# Altium schematic symbol library Schlib1.SchLib: 7 symbols
Pins are listed as number, name and electrical type; pins without a type are passive.

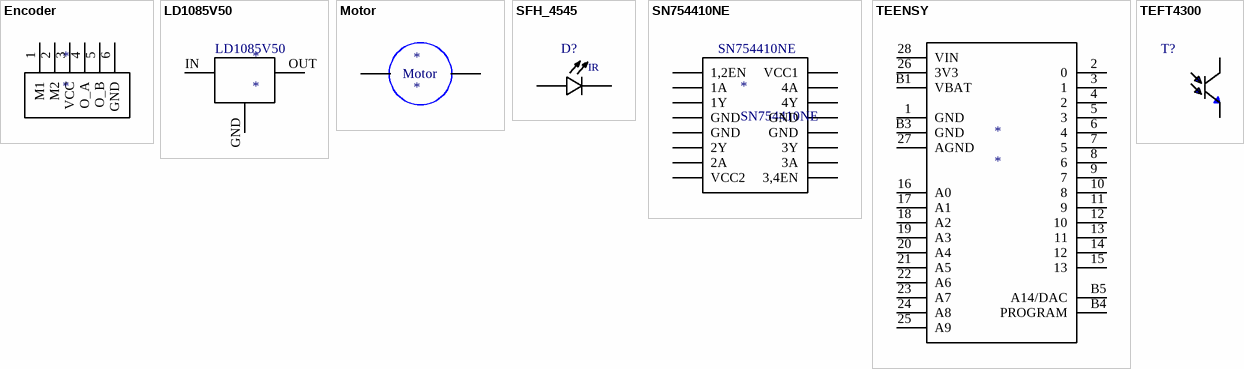
[diagram p0: symbols Encoder to TEFT4300]

## Encoder
designator *
pins: 1 M1, 2 M2, 3 VCC, 4 O_A, 5 O_B, 6 GND

## LD1085V50
designator *
STMICROELECTRONICS         LD1085V50            Fixed LDO Voltage Regulator, 8V to 30V, 1.3V Dropout, 5Vout, 3Aout, TO-220-3; Output Current: 3A; Number of Outputs: 1; Nominal Output Voltage: 5V; Input Bias Current: 5mA; Polarity: Positive; Quiescent Current: 10mA; Accuracy: 1%; Supplier 1: Digi-Key; Supplier Part Number 1: 497-3436-5-ND; Manufacturer 1: STMicroelectronics; Manufacturer Part Number 1: LD1085V50; Stock 1: 1010; Pricing 1: 1=1.30000, 10=1.16200, 25=1.10320, 100=0.84710, 250=0.74860, 500=0.70920, 1000=0.55160, 2500=0.52402, 5000=0.50432 (USD); RoHS: Yes; Mount: Through Hole; Case/Package: TO; Number of Pins: 3; Weight: 0.02lb; Min Operating Temperature: -40°C; Max Operating Temperature: 125°C; Dropout Voltage: 1.3V; Max Input Voltage: 30V; Min Input Voltage: 8V; Package Quantity: 50; Output Voltage: 5V; Packaging: Rail/Tube; Max Output Current: 3A; Number of Regulators: 1; Min Output Voltage: 5V; Output Voltage Accuracy: 1%; Output Type: Fixed; Length: 10.4mm; Height: 9.15mm; Width: 4.6mm; Radiation Hardening: No; REACH SVHC: No SVHC; Lead Free: Lead Free; ComponentLink1URL: https://datasheet.ciiva.com/15111/getdatasheetpartid-42498-15111002.pdf?src-supplier=Verical; ComponentLink1Description: https://datasheet.ciiva.com/15111/getdatasheetpartid-42498-15111002.pdf?src-supplier=Verical; ComponentLink2URL: https://datasheet.ciiva.com/16496/cd00001883-16496025.pdf?src-supplier=Future+Electronics; ComponentLink2Description: https://datasheet.ciiva.com/16496/cd00001883-16496025.pdf?src-supplier=Future+Electronics; ComponentLink3URL: https://datasheet.ciiva.com/2052/cd00001883-2052652.pdf?src-supplier=Digi-Key; ComponentLink3Description: https://datasheet.ciiva.com/2052/cd00001883-2052652.pdf?src-supplier=Digi-Key; ComponentLink4URL: https://datasheet.ciiva.com/1511/1761309-1511546.pdf?src-supplier=Element14; ComponentLink4Description: https://datasheet.ciiva.com/1511/1761309-1511546.pdf?src-supplier=Element14; ComponentLink5URL: https://datasheet.ciiva.com/3225/cd00001883-3225070.pdf?src-supplier=Avnet; ComponentLink5Description: https://datasheet.ciiva.com/3225/cd00001883-3225070.pdf?src-supplier=Avnet; ComponentLink6URL: https://datasheet.ciiva.com/16491/cd00001883-16491278.pdf?src-supplier=Avnet+Asia; ComponentLink6Description: https://datasheet.ciiva.com/16491/cd00001883-16491278.pdf?src-supplier=Avnet+Asia
pins: GND 38, IN 36, OUT 37

## Motor
designator *
pins: 1 +, 1 +

## SFH_4545
designator D?  (value not drawn)
/ Infrared _IR_ Emitter 950nm 1.5V 100mA 550mW/sr @ 100mA 10Â° Radial /; MF: OSRAM Opto; Package: Radial Osram Opto; Digi-Key_Purchase_URL: https://www.digikey.com/product-detail/en/osram-opto-semiconductors-inc/SFH-4545/475-2919-ND/2205955?utm_source=snapeda&utm_medium=aggregator&utm_campaign=symbol; MP: SFH 4545; SnapEDA_Link: https://www.snapeda.com/parts/SFH%204545/OSRAM%20Opto%20Semiconductors%20Inc./view-part/78935/?ref=snap; Digi-Key_Part_Number: 475-2919-ND; Value: *
footprint *DIO_SFH_4545_SFH_4545(Primary)
pins: A, C
text: IR

## SN754410NE
designator *
TEXAS INSTRUMENTS - SN754410NE - IC, PERIPHERAL DRIVER, HALF-H, 1A, DIP16; Number of Outputs: 4; Output Voltage: 36V; Output Current: 1.1A; Min Supply Voltage: 4.5V; Max Power Dissipation: 2.075W; Max Output Current: 2A; Supplier 1: Digi-Key; Supplier Part Number 1: 296-9911-5-ND; Manufacturer 1: Texas Instruments; Manufacturer Part Number 1: SN754410NE; Stock 1: 9739; Pricing 1: 1=2.52000, 10=2.26300, 25=2.13520, 100=1.70800, 250=1.49452, 500=1.45180, 1000=1.15290, 2500=1.11020, 5000=1.06750 (USD); RoHS: Yes; Mount: Through Hole; Case/Package: PDIP; Number of Pins: 16; Weight: 0.03357oz; Contact Plating: Gold; Min Operating Temperature: -40°C; Max Operating Temperature: 85°C; Packaging: Rail/Tube; Package Quantity: 25; Max Supply Voltage: 36V; Number of Circuits: 4; Number of Drivers: 4; Length: 19.8mm; Height: 4.57mm; Width: 6.35mm; Radiation Hardening: No; REACH SVHC: No SVHC; Lead Free: Lead Free; ComponentLink1URL: https://datasheet.ciiva.com/3148/sn754410-3148578.pdf?src-supplier=Avnet; ComponentLink1Description: https://datasheet.ciiva.com/3148/sn754410-3148578.pdf?src-supplier=Avnet; ComponentLink2URL: https://datasheet.ciiva.com/15134/getdatasheetpartid-186188-15134420.pdf?src-supplier=Verical; ComponentLink2Description: https://datasheet.ciiva.com/15134/getdatasheetpartid-186188-15134420.pdf?src-supplier=Verical; ComponentLink3URL: https://datasheet.ciiva.com/20167/82-0203-20167420.pdf?src-supplier=Rapid+Electronics; ComponentLink3Description: https://datasheet.ciiva.com/20167/82-0203-20167420.pdf?src-supplier=Rapid+Electronics; ComponentLink4URL: https://datasheet.ciiva.com/19456/1054684-19456682.pdf?src-supplier=Jameco; ComponentLink4Description: https://datasheet.ciiva.com/19456/1054684-19456682.pdf?src-supplier=Jameco; ComponentLink5URL: https://datasheet.ciiva.com/26237/sn754410-26237980.pdf?src-supplier=Avnet+Europe; ComponentLink5Description: https://datasheet.ciiva.com/26237/sn754410-26237980.pdf?src-supplier=Avnet+Europe
pins: 1 1,2EN, 2 1A, 3 1Y, 4 GND, 5 GND, 6 2Y, 7 2A, 8 VCC2, 9 3,4EN, 10 3A, 11 3Y, 12 GND, 13 GND, 14 4Y, 15 4A, 16 VCC1

## TEENSY
designator *
TEENSY 3.2 + HEADER; Manufacturer 1: Adafruit Industries; Manufacturer Part Number 1: 2756; Supplier 1: Digi-Key; Supplier Part Number 1: 1528-2385-ND; Stock 1: 611; Pricing 1: 1=24.94000 (USD); RoHS: No; ComponentLink1URL: https://media.digikey.com/pdf/Data%20Sheets/Adafruit%20PDFs/2756_Web.pdf?src-supplier=Digi-Key; ComponentLink1Description: https://media.digikey.com/pdf/Data%20Sheets/Adafruit%20PDFs/2756_Web.pdf?src-supplier=Digi-Key
pins: 1 GND, 2 0, 3 1, 4 2, 5 3, 6 4, 7 5, 8 6, 9 7, 10 8, 11 9, 12 10, 13 11, 14 12, 15 13, 16 A0, 17 A1, 18 A2, 19 A3, 20 A4, 21 A5, 22 A6, 23 A7, 24 A8, 25 A9, 26 3V3, 27 AGND, 28 VIN, B1 VBAT, B3 GND, B4 PROGRAM, B5 A14/DAC

## TEFT4300
designator T?  (value not drawn)
Phototransistor 925nm Top View Radial, 3mm Dia _T-1_; MF: Vishay Semiconductor; Digi-Key_Part_Number: 751-1041-ND; Package: Radial Vishay; SnapEDA_Link: https://www.snapeda.com/parts/TEFT4300/Vishay%20Semiconductor%20Opto%20Division/view-part/213585/?ref=snap; MP: TEFT4300; Digi-Key_Purchase_URL: https://www.digikey.com/product-detail/en/vishay-semiconductor-opto-division/TEFT4300/751-1041-ND/1681175?utm_source=snapeda&utm_medium=aggregator&utm_campaign=symbol; Value: *
footprint *XDCR_TEFT4300_TEFT4300(Primary)
pins: C, E